# Altium footprint library HM10.PcbLib: 1 footprints
Each footprint in its own frame and in the unit in brackets; x right, y up, seen from the top. Pads: shape width x height; smd on the part's side, far side on the other; paste and mask are expansions set on the pad; w line width, h text height; cw(c..) or ccw(c..) is an arc to the next point about the centre after c.
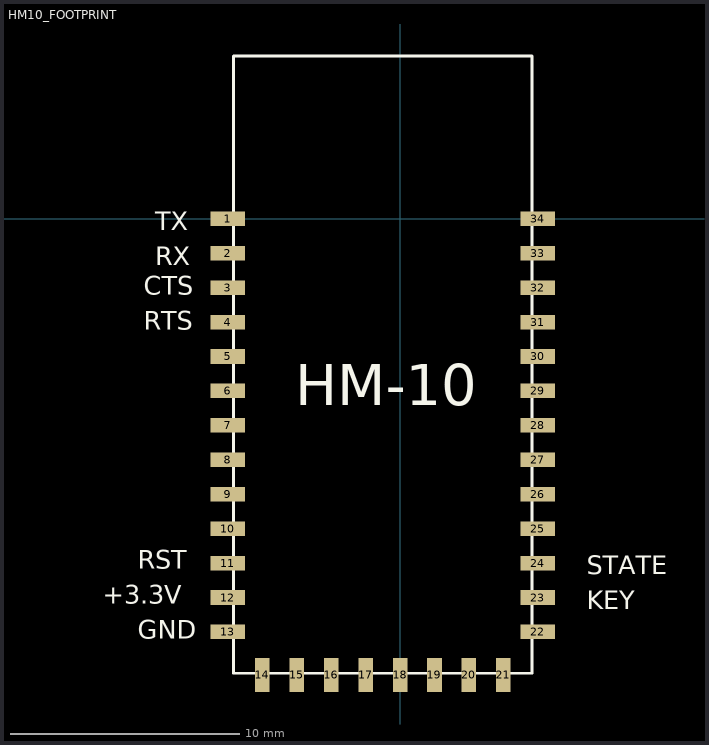
[diagram p0: the footprint, top view; thin cyan lines are the x and y axes]

## HM10_FOOTPRINT [mm] "26.9X13X2.2_BOARD"
pads (34):
  rect 1.5x0.635 smd: 1(-7.5,0) 2(-7.5,-1.5) 3(-7.5,-3) 4(-7.5,-4.5) 5(-7.5,-6) 6(-7.5,-7.5) 7(-7.5,-9) 8(-7.5,-10.5) 9(-7.5,-12) 10(-7.5,-13.5) 11(-7.5,-15) 12(-7.5,-16.5) 13(-7.5,-18) 22(6,-18) 23(6,-16.5) 24(6,-15) 25(6,-13.5) 26(6,-12) 27(6,-10.5) 28(6,-9) 29(6,-7.5) 30(6,-6) 31(6,-4.5) 32(6,-3) 33(6,-1.5) 34(6,0)
  rect 0.635x1.5 smd: 14(-6,-19.875) 15(-4.5,-19.875) 16(-3,-19.875) 17(-1.5,-19.875) 18(0,-19.875) 19(1.5,-19.875) 20(3,-19.875) 21(4.5,-19.875)
Top Overlay:
  lines w0.127: -7.25,-19.8 -7.25,7.1 5.75,7.1 5.75,-19.8 -7.25,-19.8
  text "TX" at -10.668,-0.508 h0.81
  text "STATE" at 8.128,-15.494 h0.81
  text "KEY" at 8.128,-17.018 h0.81
  text "GND" at -11.43,-18.288 h0.81
  text "+3.3V" at -12.954,-16.764 h0.81
  text "RST" at -11.43,-15.24 h0.81
  text "RTS" at -11.176,-4.826 h0.81
  text "CTS" at -11.176,-3.302 h0.81
  text "RX" at -10.668,-2.032 h0.81
  text "HM-10" at -4.572,-8.128 h1.78
3D body "step_temp.STEP": height 2.2, standoff 0, extent -7.262,-19.8 5.738,7.1